# Altium schematic symbol library MODULE-GPS-SMD-MAX-7Q-0_18P-9.6X10MM_.SchLib: 1 symbol
Pins are listed as number, name and electrical type; pins without a type are passive.

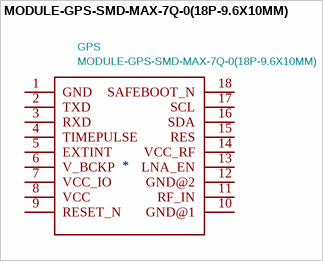
[diagram p0: symbol MODULE-GPS-SMD-MAX-7Q-0(18P-9.6X10MM)]

## MODULE-GPS-SMD-MAX-7Q-0(18P-9.6X10MM)
designator GPS  value MODULE-GPS-SMD-MAX-7Q-0(18P-9.6X10MM)
Parameter_4: SMD-18 u-blox; Parameter_5: SMD GPS Module;; Parameter_6: Unavailable; Parameter_7: MAX-7Q-0; Parameter_8: None; Footprint: GPS18P-SMD-1.1-10X9.6MM; Supplier: U-Blox America
footprint GPS18P-SMD-1.1-10X9.6MM
pins: 1 GND, 2 TXD, 3 RXD, 4 TIMEPULSE, 5 EXTINT, 6 V_BCKP, 7 VCC_IO, 8 VCC, 9 RESET_N, 10 GND@1, 11 RF_IN, 12 GND@2, 13 LNA_EN, 14 VCC_RF, 15 RES, 16 SDA, 17 SCL, 18 SAFEBOOT_N